# EAGLE library part HEADER-6P (library Elecrow_Connector)
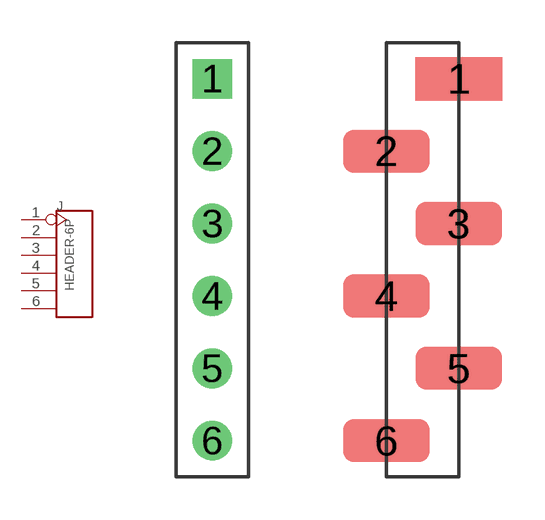
[diagram p19: symbol with the pads of 6P-2.54-55/35MIL; footprints 6P-2.54-55/35MIL, 6P-2.54-SMD]

Designator prefix J

## HEADER-6P-55/35MIL  [6P-2.54-55/35MIL]
1  1
2  2
3  3
4  4
5  5
6  6

## HEADER-6P-SMD  [6P-2.54-SMD]
Pads as for 6P-2.54-55/35MIL

## HEADER-6P-80/40MIL  [6P-2.54-80/40MIL]
Pads as for 6P-2.54-55/35MIL

## HEADER-6P-60/35MIL  [6P-2.54-60/35MIL]
Pads as for 6P-2.54-55/35MIL

## HEADER-6P-65/35MIL  [6P-2.54-65/35MIL]
Pads as for 6P-2.54-55/35MIL

## Footprint 6P-2.54-55/35MIL (pad centres in mm)
drill 0.889 pad 1.397 square: 1 0,6.35
drill 0.889 pad 1.397: 2 0,3.81; 3 0,1.27; 4 0,-1.27; 5 0,-3.81; 6 0,-6.35

## Footprint 6P-2.54-SMD (pad centres in mm)
smd 3.048 x 1.524: 1 1.27,6.35; 2 -1.27,3.81; 3 1.27,1.27; 4 -1.27,-1.27; 5 1.27,-3.81; 6 -1.27,-6.35

## Footprint 6P-2.54-80/40MIL (pad centres in mm)
drill 1.016 pad 2.032 square: 1 0,6.35
drill 1.016 pad 2.032: 2 0,3.81; 3 0,1.27; 4 0,-1.27; 5 0,-3.81; 6 0,-6.35

## Footprint 6P-2.54-60/35MIL (pad centres in mm)
drill 0.889 pad 1.524 square: 1 0,6.35
drill 0.889 pad 1.524: 2 0,3.81; 3 0,1.27; 4 0,-1.27; 5 0,-3.81; 6 0,-6.35

## Footprint 6P-2.54-65/35MIL (pad centres in mm)
drill 0.889 pad 1.651 square: 1 0,6.35
drill 0.889 pad 1.651: 2 0,3.81; 3 0,1.27; 4 0,-1.27; 5 0,-3.81; 6 0,-6.35